# EAGLE library part USBC-*? (library usb-c)
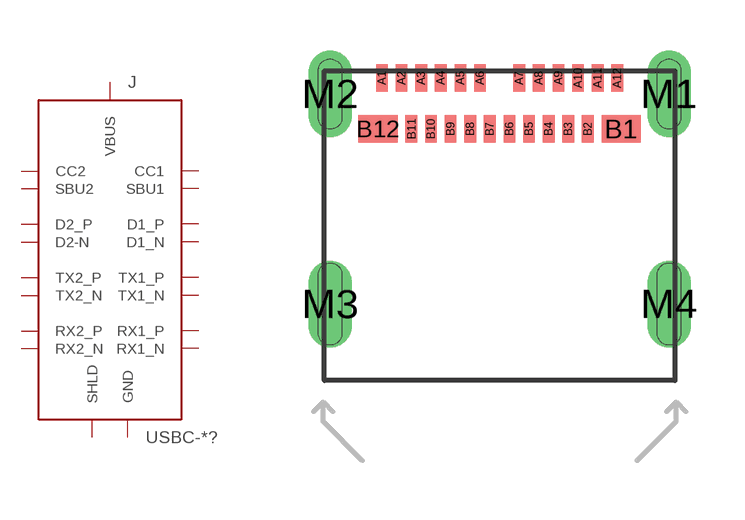
[diagram p0: symbol with the pads of MOLEX-1054500101; footprint MOLEX-1054500101]

Designator prefix J

## USBC-105400101 (MF: MOLEX; MPN: 1054500101)  [MOLEX-1054500101]
A1  GND
A2  TX1_P
A3  TX1_N
A4  VBUS
A5  CC1
A6  D1_P
A7  D1_N
A8  SBU1
A9  VBUS
A10  RX2_N
A11  RX2_P
A12  GND
B1  GND
B2  TX2_P
B3  TX2_N
B4  VBUS
B5  CC2
B6  D2_P
B7  D2-N
B8  SBU2
B9  VBUS
B10  RX1_N
B11  RX1_P
B12  GND
M1  SHLD
M2  SHLD
M3  SHLD
M4  SHLD

## Footprint MOLEX-1054500101 (pad centres in mm)
smd 0.3 x 0.7: A1 -3,3.77; A2 -2.5,3.77; A3 -2,3.77; A4 -1.5,3.77; A5 -1,3.77; A6 -0.5,3.77; A7 0.5,3.77; A8 1,3.77; A9 1.5,3.77; A10 2,3.77; A11 2.5,3.77; A12 3,3.77; B2 2.25,2.47; B3 1.75,2.47; B4 1.25,2.47; B5 0.75,2.47; B6 0.25,2.47; B7 -0.25,2.47; B8 -0.75,2.47; B9 -1.25,2.47; B10 -1.75,2.47
smd 1 x 0.7: B1 3.1,2.47; B12 -3.1,2.47
smd 0.31 x 0.7: B11 -2.25,2.47
drill 0.6 pad 1.1 long: M1 4.32,3.36; M2 -4.32,3.36; M3 -4.32,-2; M4 4.32,-2